# EAGLE library part ADUM1411 (library Richard)
Quad-Channel Digital Isolators The ADuM141x1 are four-channel digital isolators based on Analog Devices, Inc. iCoupler® technology. Combining high speed CMOS and monolithic air core transformer technologies, these isolation components provide outstanding performance characteristics superior to alternatives such as optocoupler devices. By avoiding the use of LEDs and photodiodes, iCoupler devices remove the design difficulties commonly associated with opto- couplers. The usual concerns that arise with optocouplers, such as uncertain current transfer ratios, nonlinear transfer functions, and temperature and lifetime effects, are eliminated with the simple iCoupler digital interfaces and stable performance characteristics. The need for external drivers and other discrete components is eliminated with these iCoupler products. Furthermore, iCoupler devices consume one-tenth to one-sixth the power of optocou- plers at comparable signal data rates. The ADuM141x isolators provide four independent isolation channels in a variety of channel configurations and data rates (see the Ordering Guide) up to 10 Mbps. All models operate with the supply voltage on either side ranging from 2.7 V to 5.5 V, providing compatibility with lower voltage systems as well as enabling voltage translation functionality across the isolation barrier. All products also have a default output control pin. This allows the user to define the logic state the outputs are to adopt in the absence of the input power. Unlike other optocoupler alternatives, the ADuM141x isolators have a patented refresh feature that ensures dc correctness in the absence of input logic transitions and during power-up/power-down conditions.
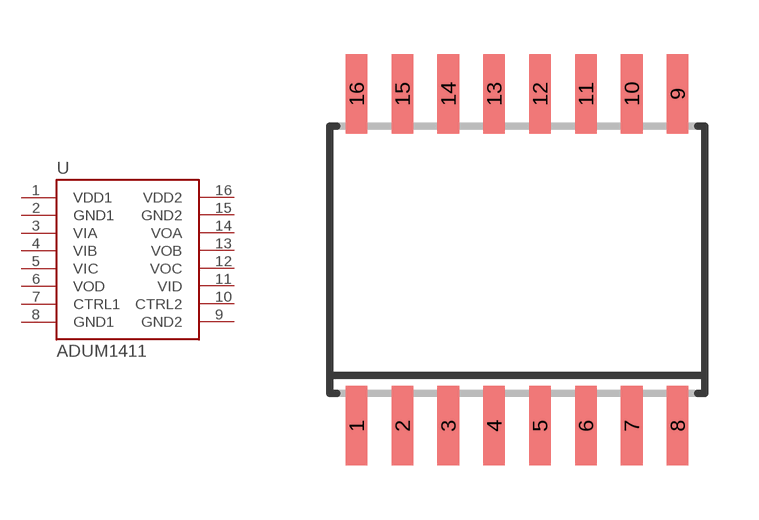
[diagram p0: symbol with the pads of SO16W; footprint SO16W]

Designator prefix U

## ADUM1411RW (MANUF: Analog Devices; PARTNUM: ADuM1411A)  [SO16W]
1  VDD1  pas
2  GND1  pas
3  VIA  pas
4  VIB  pas
5  VIC  pas
6  VOD  pas
7  CTRL1  pas
8  GND1  pas
9  GND2  pas
10  CTRL2  pas
11  VID  pas
12  VOC  pas
13  VOB  pas
14  VOA  pas
15  GND2  pas
16  VDD2  pas

## Footprint SO16W (pad centres in mm)
SMALL OUTLINE INTEGRATED CIRCUIT wide body 7.5 mm/JEDEC MS-013AA
smd 0.6 x 2.2: 1 -4.445,-4.6; 2 -3.175,-4.6; 3 -1.905,-4.6; 4 -0.635,-4.6; 5 0.635,-4.6; 6 1.905,-4.6; 7 3.175,-4.6; 8 4.445,-4.6; 9 4.445,4.6; 10 3.175,4.6; 11 1.905,4.6; 12 0.635,4.6; 13 -0.635,4.6; 14 -1.905,4.6; 15 -3.175,4.6; 16 -4.445,4.6